# Altium schematic symbol library multimodal.SchLib: 121 symbols
Pins are listed as number, name and electrical type; pins without a type are passive.

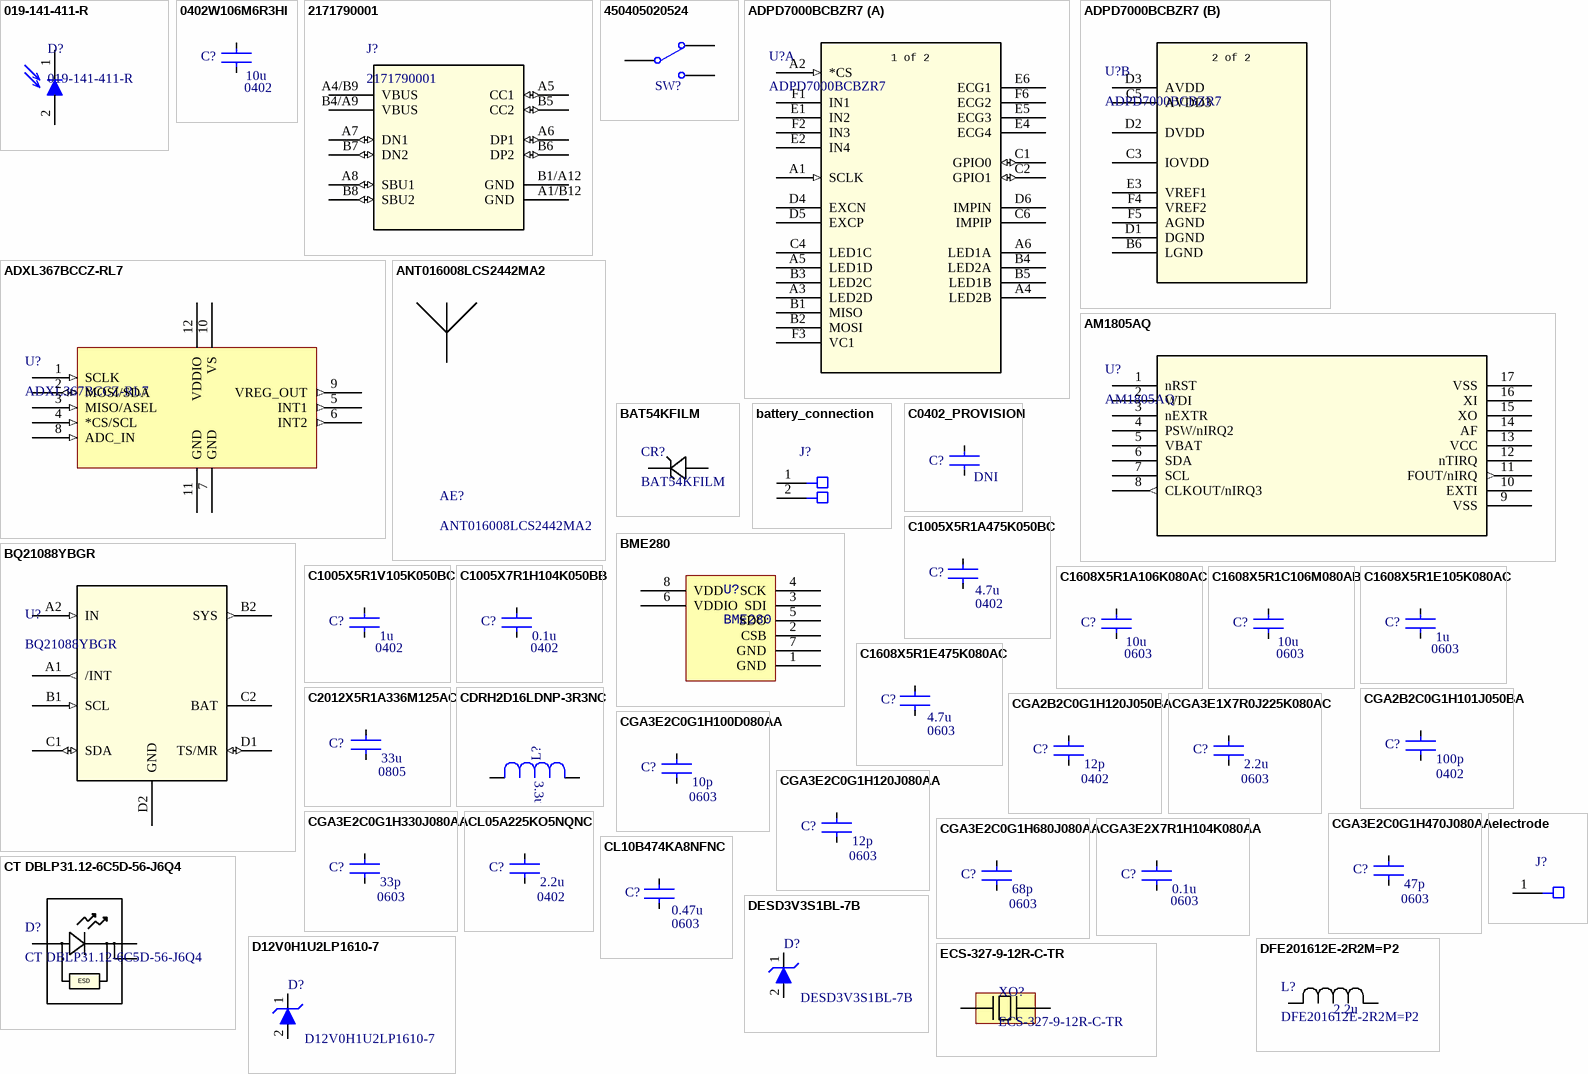
[diagram p0: symbols 019-141-411-R to electrode]

## 019-141-411-R
designator D?
PHOTODIODE RED MICRO SMT; Supplier 1: Digi-Key; Supplier Part Number 1: 209-019-141-411-RCT-ND
footprint RED-PD
pins: 1, 2

## 0402W106M6R3HI
designator C?  (value not drawn)
CAP SMD,0402,X5R,10UF,20%,6.3V
footprint CAPTDK0402
pins: 1, 2
text: 10u; 0402

## 2171790001
designator J?
Universal Serial Bus (USB) Shielded I/O Receptacle, Type C, Right-Angle, Top Mount, Surface Mount, Single Row, 16 Circuits, Gold (Au) Plating; Manufacturer_Name: Molex Connector Corporation; Copyright: Copyright (C) 2025 Ultra Librarian. All rights reserved.; Manufacturer_Part_Number: 2171790001; RefDes: RefDes; Type: Type; Supplier 1: Avnet; Supplier Part Number 1: 2171790001
footprint 2171790001_MOL
pins: A1/B12 GND (power), A4/B9 VBUS (power), A5 CC1 (io), A6 DP1 (io), A7 DN1 (io), A8 SBU1 (io), B1/A12 GND (power), B4/A9 VBUS (power), B5 CC2 (io), B6 DP2 (io), B7 DN2 (io), B8 SBU2 (io)

## 450405020524
designator SW?  (value not drawn)
WS-SLSU SMT Mini Slide Switch Same Side Connection, SPDT, 5VDC, 300mA, 225g; Manufacturer: Wurth Elektronik; ComponentLink1Description: Website Link; ComponentLink1URL: https://www.we-online.com/redexpert/article/450405020524?ad; ComponentLink2Description: Datasheet Link; ComponentLink2URL: https://www.we-online.com/redexpert/spec/450405020524?ad; Manufacturer Part Number: 450405020524; Category: Slide Switches; Match Code: WS-SLSU; Mount: Surface Mount; Operating Temperature Max: 85°C; Operating Temperature Min: -40°C; Packaging: Tape and Reel; Length: 8.7mm; Width: 3mm; Height: 2mm; Circuit: SPDT; Contact Material: Copper Alloy; Contact Plating: Silver; Operation Force: 225g; Rated Current: 300mA; Rated Voltage: 5VDC; Terminal Material: Copper Alloy; Terminal Plating: Silver
footprint 450405020524 (SMT Mini Slide Switch, Same side connection)
pins: COM, L1, L2

## ADPD7000BCBZR7
designator U?
Multimodal Sensor Front End; Manufacturer_Name: Analog Devices Inc; Type: Interface; Copyright: Copyright (C) 2026 Ultra Librarian. All rights reserved.; Manufacturer_Part_Number: ADPD7000BCBZR7; RefDes: RefDes
footprint ADPD7001_36-WLCSP
part A pins: A1 SCLK (in), A2 *CS (in), A3 LED2D, A4 LED2B, A5 LED1D, A6 LED1A, B1 MISO, B2 MOSI, B3 LED2C, B4 LED2A, B5 LED1B, C1 GPIO0 (io), C2 GPIO1 (io), C4 LED1C, C6 IMPIP, D4 EXCN, D5 EXCP, D6 IMPIN, E1 IN2, E2 IN4, E4 ECG4, E5 ECG3, E6 ECG1, F1 IN1, F2 IN3, F3 VC1, F6 ECG2
part B pins: B6 LGND (power), C3 IOVDD (power), C5 AVDD3 (power), D1 DGND (power), D2 DVDD (power), D3 AVDD (power), E3 VREF1, F4 VREF2, F5 AGND (power)
part A text: 1 of 2
part B text: 2 of 2

## ADXL367BCCZ-RL7
designator U?
Accelerometer X, Y, Z Axis ±2g, 4g, 8g 6.25Hz ~ 200Hz 12-LGA (2.2x2.3); Manufacturer_Name: Analog Devices Inc; Type: Motion Sensors; Copyright: Copyright (C) 2025 Ultra Librarian. All rights reserved.; Manufacturer_Part_Number: ADXL367BCCZ-RL7; RefDes: RefDes; Supplier 1: DigiKey; Supplier Part Number 1: 505-ADXL367BCCZ-RL7CT-ND
footprint ADXL367BCCZ-RL7
pins: 1 SCLK (in), 2 MOSI/SDA (io), 3 MISO/ASEL (in), 4 *CS/SCL (in), 5 INT1 (out), 6 INT2 (out), 7 GND (power), 8 ADC_IN (in), 9 VREG_OUT (out), 10 VS (power), 11 GND (power), 12 VDDIO (power)

## AM1805AQ
designator U?
RTC ARTASIE I2C W/PWR MNGT 16QFN; Manufacturer_Name: Ambiq Micro; Manufacturer_Part_Number: AM1815AQ; Copyright: Copyright (C) 2026 Ultra Librarian. All rights reserved.; RefDes: RefDes; Type: Type; Supplier 1: DigiKey; Supplier Part Number 1: 5128-AM1805AQCT-ND
footprint QFN16_AM1805AQ_ABQ
pins: 1 nRST, 2 WDI, 3 nEXTR, 4 PSW/nIRQ2, 5 VBAT, 6 SDA, 7 SCL, 8 CLKOUT/nIRQ3 (out), 9 VSS, 10 EXTI, 11 FOUT/nIRQ (out), 12 nTIRQ, 13 VCC (power), 14 AF, 15 XO, 16 XI, 17 VSS (power)

## ANT016008LCS2442MA2
designator AE?
TDK - ANT016008LCS2442MA2 - Chip Antenna, ISM, 2.442 GHz, 50 Ohm, 1.6mm x 0.8mm x 0.4mm; Number of Bands: 1; Max Frequency: 27MHz; Supplier 1: Digi-Key; Manufacturer: TDK; Manufacturer Part Number: ANT016008LCS2442MA2; RoHS: Yes; Category: RF Antennas; Stock 1: 16359; Pricing 1: 1=0.72000, 10=0.63500, 25=0.59680, 100=0.48700, 250=0.45236, 500=0.38500, 1000=0.30800 (USD); Mount: Surface Mount; Case/Package: 0603; Number of Pins: 6; Packaging: Cut Tape; Termination: Solder; Height: 0.016inch; REACH SVHC: No SVHC; RoHS Compliant: Yes; ComponentLink1URL: http://www.farnell.com/datasheets/2294435.pdf?src-supplier=Farnell; ComponentLink1Description: http://www.farnell.com/datasheets/2294435.pdf?src-supplier=Farnell; ComponentLink2URL: https://product.tdk.com/info/en/documents/data_sheet/rf_ant_ant016008lcs2442ma2_summary_en.pdf?src-supplier=Digi-Key; ComponentLink2Description: https://product.tdk.com/info/en/documents/data_sheet/rf_ant_ant016008lcs2442ma2_summary_en.pdf?src-supplier=Digi-Key; ComponentLink3URL: https://product.tdk.com/info/en/documents/data_sheet/rf_ant_ant016008lcs2442ma2_en.pdf?src-supplier=Avnet; ComponentLink3Description: https://product.tdk.com/info/en/documents/data_sheet/rf_ant_ant016008lcs2442ma2_en.pdf?src-supplier=Avnet; ComponentLink4URL: http://www.farnell.com/datasheets/1932405.pdf?src-supplier=Element14; ComponentLink4Description: http://www.farnell.com/datasheets/1932405.pdf?src-supplier=Element14; Supplier Part Number 1: 445-172405CT-ND
footprint ANTENNA
pins: 2

## BAT54KFILM
designator CR?
40 V, 300 mA General purpose  Signal Schottky Diode; Manufacturer_Name: STMicroelectronics; Copyright: Copyright (C) 2025 Ultra Librarian. All rights reserved.; Manufacturer_Part_Number: BAT54KFILM; Refdes: Refdes
footprint SOD-523_STM-L
pins: 1, 2

## battery_connection
designator J?  (value not drawn)
footprint Battery_connection
pins: 1, 2

## BME280
designator U?
SENSOR PRESSURE HUMIDITY TEMP Humidity, Pressure, Temperature 0 ~ 100% RH I2C, SPI ±3% 1 s Surface Mount
footprint BME280_FOOTPRINT
pins: 1 GND, 2 CSB, 3 SDI, 4 SCK, 5 SDO, 6 VDDIO, 7 GND, 8 VDD

## BQ21088YBGR
designator U?
I2C, 1A single cell linear battery charger, 5V input, powerpath, ship mode and battery tracking 8-DSBGA -40 to 85; Manufacturer_Name: Texas Instruments; Copyright: Copyright (C) 2026 Ultra Librarian. All rights reserved.; Manufacturer_Part_Number: BQ21088YBGR; Datasheet: https://www.ti.com/lit/gpn/bq21088; RefDes: RefDes; Type: Type
footprint YBG0008_TEX
pins: A1 /INT (out), A2 IN (in), B1 SCL (in), B2 SYS (out), C1 SDA (io), C2 BAT, D1 TS/MR (io), D2 GND (power)

## C0402_PROVISION
designator C?, comment DNI  (no BOM)
CAP PROVISION 0603; Value: DNI
footprint CAPTDK0603
pins: 1, 1, 2, 2

## C1005X5R1A475K050BC
designator C?  (value not drawn)
CAP CER 4.7UF 10V X5R 0402; Supplier 1: Digi-Key; Supplier Part Number 1: 445-13820-1-ND
footprint CAPTDK0402
pins: 1, 2
text: 4.7u; 0402

## C1005X5R1V105K050BC
designator C?  (value not drawn)
CAP CER 1UF 35V X5R 0402; Supplier 1: Digi-Key; Supplier Part Number 1: 445-9073-1-ND
footprint CAPTDK0402
pins: 1, 2
text: 1u; 0402

## C1005X7R1H104K050BB
designator C?  (value not drawn)
CAP CER 0.1UF 50V X7R 0402; Supplier 1: Digi-Key; Supplier Part Number 1: 445-5932-1-ND
footprint CAPTDK0402
pins: 1, 2
text: 0.1u; 0402

## C1608X5R1A106K080AC
designator C?  (value not drawn)
CAP CER 10UF 10V X5R 0603; Supplier 1: Digi-Key; Supplier Part Number 1: 445-C1608X5R1A106K080ACCT-ND
footprint CAPTDK0603
pins: 1, 2
text: 10u; 0603

## C1608X5R1C106M080AB
designator C?  (value not drawn)
CAP CER 10UF 16V X5R 0603; Supplier 1: Avnet; Supplier Part Number 1: C1608X5R1C106M080AB
footprint CAPTDK0603
pins: 1, 2
text: 10u; 0603

## C1608X5R1E105K080AC
designator C?  (value not drawn)
CAP CER 1UF 25V X5R 0603; Supplier 1: Digi-Key; Supplier Part Number 1: 445-5146-1-ND
footprint CAPTDK0603
pins: 1, 2
text: 1u; 0603

## C1608X5R1E475K080AC
designator C?  (value not drawn)
CAP CER 4.7UF 25V X5R 0603; Supplier 1: Digi-Key; Supplier Part Number 1: 445-9050-1-ND
footprint CAPTDK0603
pins: 1, 2
text: 4.7u; 0603

## C2012X5R1A336M125AC
designator C?  (value not drawn)
CAP CER 33UF 10V X5R 0805; Supplier 1: Digi-Key; Supplier Part Number 1: 445-8238-1-ND
footprint CAPTDK0805
pins: 1, 2
text: 33u; 0805

## CDRH2D16LDNP-3R3NC
designator L?  (value not drawn)
FIXED IND 3.3UH 1.74A 67 MOHM; Supplier 1: DigiKey; Supplier Part Number 1: 490-15244-1-ND
footprint IND_SUMIDA
pins: 1, 2
text: 3.3uH

## CGA2B2C0G1H101J050BA
designator C?  (value not drawn)
CAP CER 100PF 50V C0G 0402; Supplier 1: Digi-Key; Supplier Part Number 1: 445-5596-1-ND
footprint CAPTDK0402
pins: 1, 2
text: 100p; 0402

## CGA2B2C0G1H120J050BA
designator C?  (value not drawn)
CAP CER 12PF 50V C0G 0402; Supplier 1: Digi-Key; Supplier Part Number 1: 445-5585-1-ND
footprint CAPTDK0402
pins: 1, 2
text: 12p; 0402

## CGA3E1X7R0J225K080AC
designator C?  (value not drawn)
CAP CER 2.2UF 6.3V X7R 0603; Supplier 1: Avnet; Supplier Part Number 1: CGA3E1X7R0J225K080AC
footprint CAPTDK0603
pins: 1, 2
text: 2.2u; 0603

## CGA3E2C0G1H100D080AA
designator C?  (value not drawn)
CAP CER 10PF 50V C0G 0603; Supplier 1: Avnet; Supplier Part Number 1: 80X3161
footprint CAPTDK0603
pins: 1, 2
text: 10p; 0603

## CGA3E2C0G1H120J080AA
designator C?  (value not drawn)
CAP CER 12PF 50V C0G 0603; Supplier 1: Digi-Key; Supplier Part Number 1: 445-5629-1-ND
footprint CAPTDK0603
pins: 1, 2
text: 12p; 0603

## CGA3E2C0G1H330J080AA
designator C?  (value not drawn)
CAP CER 33PF 50V C0G 0603; Supplier 1: Newark; Supplier Part Number 1: CGA3E2C0G1H330J080AA
footprint CAPTDK0603
pins: 1, 2
text: 33p; 0603

## CGA3E2C0G1H470J080AA
designator C?  (value not drawn)
CAP CER 47PF 50V C0G 0603; Supplier 1: Avnet; Supplier Part Number 1: CGA3E2C0G1H470J080AA
footprint CAPTDK0603
pins: 1, 2
text: 47p; 0603

## CGA3E2C0G1H680J080AA
designator C?  (value not drawn)
CAP CER 68PF 50V C0G 0603; Supplier 1: Avnet; Supplier Part Number 1: 80X3175
footprint CAPTDK0603
pins: 1, 2
text: 68p; 0603

## CGA3E2X7R1H104K080AA
designator C?  (value not drawn)
CAP CER 0.1UF 50V X7R 0603; Supplier 1: Digi-Key; Supplier Part Number 1: 445-5666-1-ND
footprint CAPTDK0603
pins: 1, 2
text: 0.1u; 0603

## CL05A225KO5NQNC
designator C?  (value not drawn)
CAP CER 2.2UF 16V X5R 0402; Supplier 1: Avnet; Supplier Part Number 1: CL05A225KO5NQNC
footprint CAPTDK0402
pins: 1, 2
text: 2.2u; 0402

## CL10B474KA8NFNC
designator C?  (value not drawn)
0.47 µF ±10% 25V Ceramic Capacitor X7R 0603 (1608 Metric); Supplier 1: DigiKey; Supplier Part Number 1: 1276-2082-1-ND
footprint CAPTDK0603
pins: 1, 2
text: 0.47u; 0603

## CT DBLP31.12-6C5D-56-J6Q4
designator D?
LED GREEN CLEAR SMD Green 536nm LED Indication - Discrete 2.3V 3-SMD, No Lead; Manufacturer_Name: ams OSRAM; Copyright: Copyright (C) 2025 Ultra Librarian. All rights reserved.; Manufacturer_Part_Number: CT DBLP31.12-6C5D-56-J6Q4; Supplier 1: Avnet; Supplier Part Number 1: Q65112A4607
footprint CT DBLP31.12-6C5D-56-J6Q4_OSR
pins: 1, 2, 3
text: ESD

## D12V0H1U2LP1610-7
designator D?
TVS DIODE 12VWM 20V UDFN16102 20V Clamp 50A (8/20µs) Ipp Tvs Diode Surface Mount U-DFN1610-2 (Type B); Manufacturer: Diodes; Manufacturer Part Number: DESD3V3S1BL-7B; Direction: Bidirectional; Number of Bidirectional Channels: 1; Reverse Standoff Voltage: 3.3V; Min Breakdown Voltage: 3.8V; Clamping Voltage: 7V; Peak Pulse Power: 35W; Power Line Protection: No; Max Reverse Leakage Current: 100nA; Element Configuration: Single; Breakdown Voltage: 6.5V; Peak Pulse Current: 5A; RoHS: Yes; Category: TVS Diodes; Stock 1: 514017; Pricing 1: 1=0.32000, 10=0.26000, 100=0.13790, 500=0.09076, 1000=0.06171, 2000=0.05566, 5000=0.04840 (USD); Mount: Surface Mount; Number of Pins: 2; Min Operating Temperature: -65°C; Max Operating Temperature: 150°C; Packaging: Tape and Reel; Package Quantity: 10000; Polarity: Bidirectional; Termination: SMD/SMT; Working Voltage: 3.3V; Max Power Dissipation: 35W; Resistor Type: Zener; Radiation Hardening: No; RoHS Compliant: Yes; ComponentLink1URL: https://www.diodes.com/assets/Datasheets/DESD3V3S1BL.pdf; ComponentLink1Description: Datasheet; ComponentLink2Description: New link; ComponentLink2URL: *; Supplier 1: Avnet; Supplier Part Number 1: D12V0H1U2LP1610-7
pins: 1, 2

## DESD3V3S1BL-7B
designator D?
TVS DIODE 3.3V 7V DFN1006-2; Manufacturer: Diodes; Direction: Bidirectional; Number of Bidirectional Channels: 1; Min Breakdown Voltage: 3.8V; Peak Pulse Power: 35W; Power Line Protection: No; Max Reverse Leakage Current: 100nA; Element Configuration: Single; Breakdown Voltage: 6.5V; Peak Pulse Current: 5A; Supplier 1: Digi-Key; Manufacturer Part Number: DESD3V3S1BL-7B; RoHS: Yes; Category: TVS Diodes; Stock 1: 514017; Pricing 1: 1=0.32000, 10=0.26000, 100=0.13790, 500=0.09076, 1000=0.06171, 2000=0.05566, 5000=0.04840 (USD); Mount: Surface Mount; Number of Pins: 2; Min Operating Temperature: -65°C; Max Operating Temperature: 150°C; Packaging: Tape and Reel; Package Quantity: 10000; Reverse Standoff Voltage: 3.3V; Clamping Voltage: 7V; Polarity: Bidirectional; Termination: SMD/SMT; Working Voltage: 3.3V; Max Power Dissipation: 35W; Resistor Type: Zener; Radiation Hardening: No; RoHS Compliant: Yes; ComponentLink1URL: https://www.diodes.com/assets/Datasheets/DESD3V3S1BL.pdf; ComponentLink1Description: Datasheet; Supplier Part Number 1: DESD3V3S1BL-7BDICT-ND; ComponentLink2Description: New link; ComponentLink2URL: *
footprint TVSDIODE-0402 (DFN, 2-Leads, Body 0.61x1.01mm, Pitch 0.65mm, IPC Medium Density)
pins: 1, 2

## DFE201612E-2R2M=P2
designator L?
2.2 µH Shielded Drum Core, Wirewound Inductor 1.8 A 116mOhm Max 0806 (2016 Metric); Manufacturer_Name: Murata; Type: Fixed Inductors; Copyright: Copyright (C) 2025 Ultra Librarian. All rights reserved.; Manufacturer_Part_Number: DFE201612E-2R2M=P2
footprint IND_DFE2016_MUR-L
pins: 1, 2
text: 2.2u

## ECS-327-9-12R-C-TR
designator XO?
Crystal 0.032768MHz ±10ppm (Tol) 9pF Flexural 70000Ohm Automotive 2-Pin Ultra Mini-CSMD T/R; Manufacturer: ECS International; Manufacturer Part Number: ECS-.327-9-12R-C-TR; Frequency: 32.768kHz; ESR (Equivalent Series Resistance): 70kR; Supplier 1: Digi-Key; RoHS: Yes; Stock 1: 152; Pricing 1: 1=0.79000, 10=0.65700, 50=0.59160, 100=0.52580, 500=0.49952, 1000=0.42064 (USD); Mount: Surface Mount; Case/Package: SMD/SMT; Min Operating Temperature: -40°C; Max Operating Temperature: 85°C; Packaging: Tape and Reel; Frequency Tolerance: 10ppm; Load Capacitance: 9pF; ComponentLink1URL: https://www.ecsxtal.com/store/pdf/ECX-12R.pdf?src-supplier=Digi-Key; ComponentLink1Description: https://www.ecsxtal.com/store/pdf/ECX-12R.pdf?src-supplier=Digi-Key; Supplier Part Number 1: XC2744CT-ND
footprint LSE-32K
pins: 1, 2

## electrode
designator J?  (value not drawn)
one pad opening
footprint electrode
pins: 1

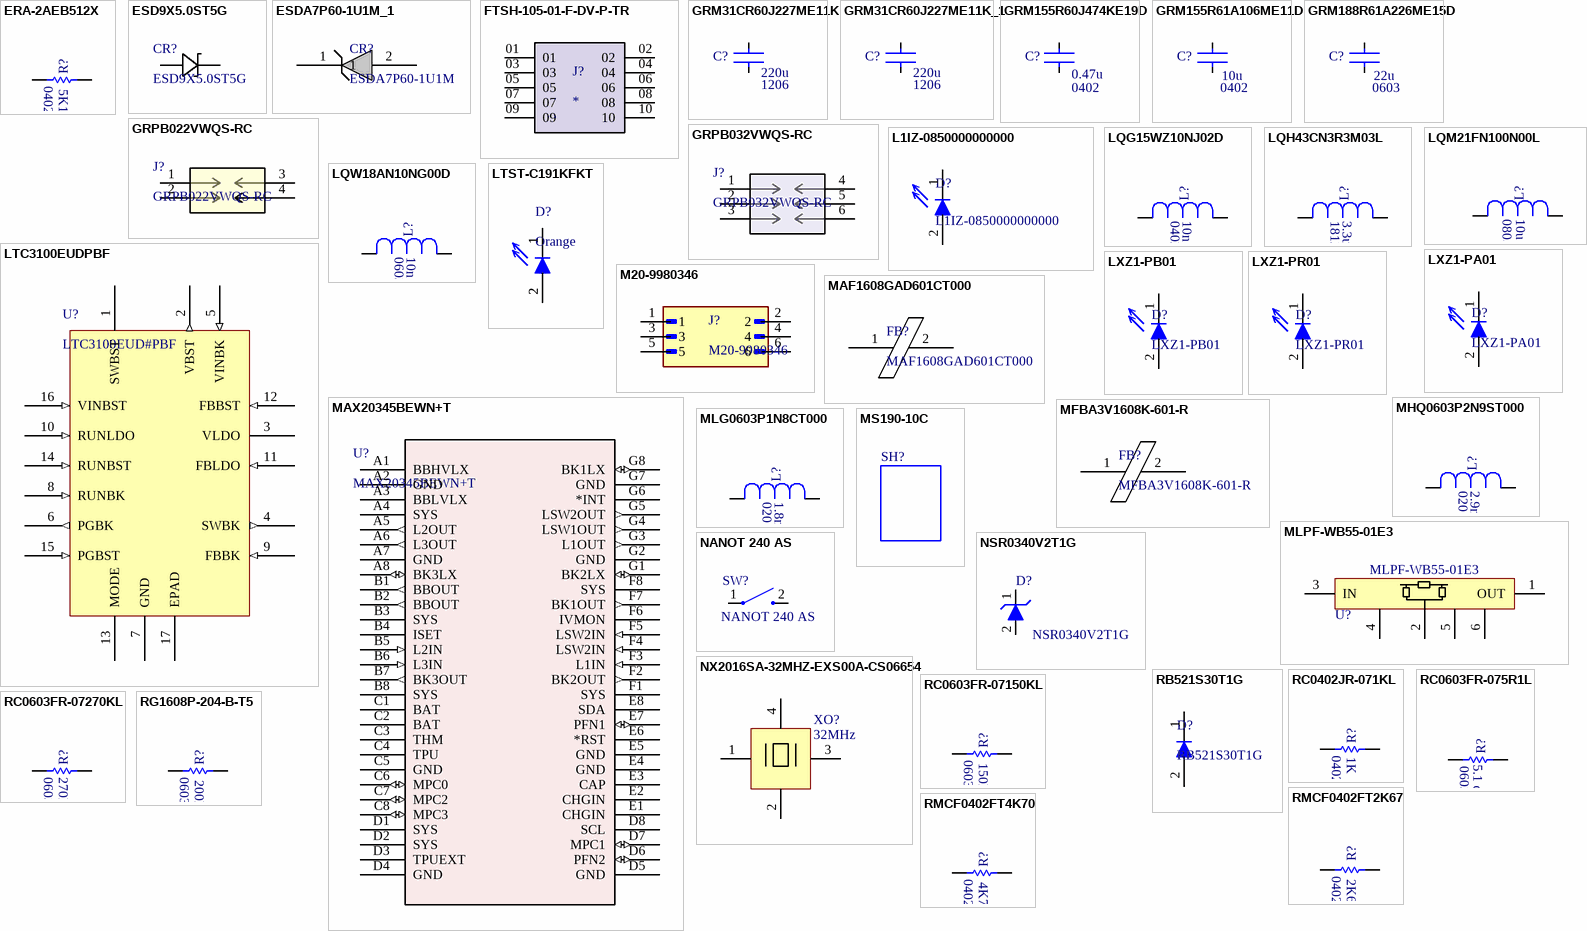
[diagram p1: symbols ERA-2AEB512X to RMCF0402FT4K70]

## ERA-2AEB512X
designator R?  (value not drawn)
RES SMD 5.1K OHM 0.1% 1/16W 0402; Supplier 1: Arrow Electronics; Supplier Part Number 1: ERA-2AEB512X
footprint RES-STACK-POLE-0402
pins: 1, 2
text: 0402; 5K1

## ESD9X5.0ST5G
designator CR?
TVS DIODE 5VWM 12.3VC SOD923; Manufacturer_Name: onsemi; Copyright: Copyright (C) 2026 Ultra Librarian. All rights reserved.; Manufacturer_Part_Number: ESD9X5.0ST5G; Supplier 1: Avnet; Supplier Part Number 1: ESD9X5.0ST5G
footprint SOD-923_514AB_ONS
pins: 1, 2

## ESDA7P60-1U1M_1
designator CR?, comment ESDA7P60-1U1M
60 A - 8/20 us, 5 V TVS in QFN-2L; Manufacturer_Name: STMicroelectronics; Copyright: Copyright (C) 2026 Ultra Librarian. All rights reserved.; Manufacturer_Part_Number: ESDA7P60-1U1M; RefDes: RefDes; Type: Type; Supplier 1: Avnet; Supplier Part Number 1: ESDA7P60-1U1M
footprint ZDO_1610_STM-M
pins: 1, 2

## FTSH-105-01-F-DV-P-TR
designator J?
Connector Header Surface Mount 10 position 0.050" (1.27mm); MF: Samtec Inc.; MP: FTSH-105-01-F-DV-K-TR; SnapEDA_Link: https://www.snapeda.com/parts/FTSH-105-01-F-DV-K-TR/Samtec/view-part/?ref=snap; Package: None; Value: *; Check_prices: https://www.snapeda.com/parts/FTSH-105-01-F-DV-K-TR/Samtec/view-part/?ref=eda
footprint SAMTEC_FTSH-105-01-F-DV-P-TR
pins: 01, 02, 03, 04, 05, 06, 07, 08, 09, 10

## GRM31CR60J227ME11K
designator C?  (value not drawn)
CAP CER 220UF 6.3V X5R 1206; Manufacturer: Murata; Dielectric Material: Ceramic; Multilayer: Yes; Negative Tolerance: 20%; Supplier 1: Digikey; Manufacturer Part Number: GRM31CR60J227ME11K; RoHS: Yes; Category: Ceramic Capacitors; Stock 1: 29099; Pricing 1: 1=0.92, 10=0.665, 50=0.5816, 100=0.4738, 500=0.38768, 1000=0.33383, 2500=0.31229 (USD); Mount: Surface Mount; Number of Pins: 2; Package Shape: Rectangular; Size Code: 1206; Terminal Finish: Nickel; Min Operating Temperature: -55°C; Max Operating Temperature: 85°C; JESD-609 Code: e3; Capacitance: 220uF; Capacitor Type: Ceramic; Packaging: Tape and Reel; Positive Tolerance: 20%; Rated DC Voltage (URdc): 6.3V; Temperature Characteristics Code: X5R; Termination: Wraparound; Reach SVHC Compliant: Yes; RoHS Compliant: Yes; ComponentLink1URL: https://psearch.en.murata.com:443/capacitor/product/GRM31CR60J227ME11%23.pdf?src-supplier=IHS+Markit; ComponentLink1Description: https://psearch.en.murata.com:443/capacitor/product/GRM31CR60J227ME11%23.pdf?src-supplier=IHS+Markit; Supplier Part Number 1: 490-GRM31CR60J227ME11KCT-ND
footprint CAPMRT1206
pins: 1, 2
text: 220u

## GRM31CR60J227ME11K_1
designator C?, comment GRM31CR60J227ME11K  (value not drawn)
CAP CER 220UF 6.3V X5R 1206; Manufacturer: Murata; Dielectric Material: Ceramic; Multilayer: Yes; Negative Tolerance: 20%; Supplier 1: Digikey; Manufacturer Part Number: GRM31CR60J227ME11K; RoHS: Yes; Category: Ceramic Capacitors; Stock 1: 29099; Pricing 1: 1=0.92, 10=0.665, 50=0.5816, 100=0.4738, 500=0.38768, 1000=0.33383, 2500=0.31229 (USD); Mount: Surface Mount; Number of Pins: 2; Package Shape: Rectangular; Size Code: 1206; Terminal Finish: Nickel; Min Operating Temperature: -55°C; Max Operating Temperature: 85°C; JESD-609 Code: e3; Capacitance: 220uF; Capacitor Type: Ceramic; Packaging: Tape and Reel; Positive Tolerance: 20%; Rated DC Voltage (URdc): 6.3V; Temperature Characteristics Code: X5R; Termination: Wraparound; Reach SVHC Compliant: Yes; RoHS Compliant: Yes; ComponentLink1URL: https://psearch.en.murata.com:443/capacitor/product/GRM31CR60J227ME11%23.pdf?src-supplier=IHS+Markit; ComponentLink1Description: https://psearch.en.murata.com:443/capacitor/product/GRM31CR60J227ME11%23.pdf?src-supplier=IHS+Markit; Supplier Part Number 1: 490-GRM31CR60J227ME11KCT-ND
footprint CAPMRT1206
pins: 1, 2
text: 220u

## GRM155R60J474KE19D
designator C?  (value not drawn)
CAP CER 0.47UF 6.3V X5R 0402; Supplier 1: Avnet; Supplier Part Number 1: GRM155R60J474KE19D
footprint CAPTDK0402
pins: 1, 2
text: 0.47u; 0402

## GRM155R61A106ME11D
designator C?  (value not drawn)
CAP CER 10UF 10V X5R 0402; Supplier 1: Digi-Key; Supplier Part Number 1: 490-GRM155R61A106ME11DCT-ND
footprint CAPTDK0402
pins: 1, 2
text: 10u; 0402

## GRM188R61A226ME15D
designator C?  (value not drawn)
CAP CER 22UF 10V X5R 0603; Supplier 1: Avnet; Supplier Part Number 1: GRM188R61A226ME15D
footprint CAPTDK0603
pins: 1, 2
text: 22u; 0603

## GRPB022VWQS-RC
designator J?
Description; Manufacturer_Name: Sullins; Type: Headers, Male Pins; Copyright: Copyright (C) 2025 Ultra Librarian. All rights reserved.; Manufacturer_Part_Number: GRPB022VWQS-RC; RefDes: RefDes
footprint CON4_GRPB022VWQS-RC_SUL
pins: 1, 2, 3, 4

## GRPB032VWQS-RC
designator J?
Description; Manufacturer_Name: Sullins; Copyright: Copyright (C) 2025 Ultra Librarian. All rights reserved.; Manufacturer_Part_Number: GRPB032VWQS-RC; RefDes: RefDes; Type: Type; Supplier 1: DigiKey; Supplier Part Number 1: S9012E-03-ND
footprint CONN_GRBP032_SUL
pins: 1, 2, 3, 4, 5, 6

## L1IZ-0850000000000
designator D?
LED INFRARED SMD 850 NM; Manufacturer_Name: Lumileds; Datasheet Link: https://www.lumileds.com/uploads/682/DS190-pdf; Height: 1mm; Manufacturer_Part_Number: L1IZ-0850000000000; Mouser Part Number: 997-L1IZ-085000000; Mouser Price/Stock: https://www.mouser.co.uk/ProductDetail/Lumileds/L1IZ-0850000000000/?qs=5aG0NVq1C4zF5FvmYgealQ%3D%3D; Arrow Part Number: L1IZ-0850000000000; Arrow Price/Stock: https://www.arrow.com/en/products/l1iz-0850000000000/lumileds; Supplier 1: Digi-Key; Supplier Part Number 1: 1416-1997-1-ND
footprint L1IZ0850000000000
pins: 1, 2

## LQG15WZ10NJ02D
designator L?  (value not drawn)
FIXED IND 10NH 500MA 190MOHM SMD; Supplier 1: Digi-Key; Supplier Part Number 1: 490-15244-1-ND
footprint INDMURT0402
pins: 1, 2
text: 0402; 10n

## LQH43CN3R3M03L
designator L?  (value not drawn)
FIXED IND 3.3UH 800MA 130 MOHM; Supplier 1: DigiKey; Supplier Part Number 1: 490-15244-1-ND
footprint IND_LQH43CN3R3M03L
pins: 1, 2
text: 1812; 3.3uH

## LQM21FN100N00L
designator L?  (value not drawn)
FIXED IND 10UH 60MA 650 MOHM SMD; Supplier 1: Digi-Key; Supplier Part Number 1: 490-1122-1-ND
footprint INDMURT0805
pins: 1, 2
text: 0805; 10u

## LQW18AN10NG00D
designator L?  (value not drawn)
FIXED IND 10NH 650MA 110MOHM SMD; Manufacturer 1: Murata; Inductance Tolerance: 2%; Q Factor: 35; Self Resonant Frequency: 6GHz; Shielding: Unshielded; DC Resistance (DCR): 110mR; Test Frequency: 100MHz; Current: 550mA; Supplier 1: Digi-Key; Supplier Part Number 1: 490-6856-1-ND; Manufacturer Part Number 1: LQW18AN10NG00D; RoHS: Yes; Category: Fixed Inductors; Stock 1: 123659; Pricing 1: 1=0,17000, 10=0,15600, 25=0,13840, 50=0,11780, 100=0,10400, 250=0,09528, 500=0,08662, 1000=0,07276 (USD); Mount: Surface Mount; Case/Package: 0603; Number of Pins: 2; Weight: 0.000106oz; Case Code (Metric): 1608; Case Code (Imperial): 0603; Min Operating Temperature: -55°C; Max Operating Temperature: 125°C; Packaging: Tape and Reel; Tolerance: 2%; Package Quantity: 4000; Current Rating: 650mA; Inductance: 10nH; Max DC Current: 650mA; Termination: SMD/SMT; Resistor Type: Wirewound; DC Current: 650mA; Series Resistance: 110mR; Series: LQW18A_00; Rated Current-Max: 650mA; Length: 1.6mm; Width: 0.8mm; Height: 0.8mm; Depth: 1mm; Radiation Hardening: No; Reach SVHC Compliant: No SVHC; Military Standard: Not; Lead Free: Lead Free; RoHS Compliant: Yes; ComponentLink1URL: https://datasheet.ciiva.com/11799/0900766b80a002db-11799438.pdf?src-supplier=RSComponents; ComponentLink1Description: https://datasheet.ciiva.com/11799/0900766b80a002db-11799438.pdf?src-supplier=RSComponents; ComponentLink2URL: https://datasheet.ciiva.com/14124/qhlqw18a-data-e-14124615.pdf?src-supplier=Distrelec; ComponentLink2Description: https://datasheet.ciiva.com/14124/qhlqw18a-data-e-14124615.pdf?src-supplier=Distrelec; ComponentLink3URL: https://datasheet.ciiva.com/6709/l0075s0080lqw18a-00-6709786.pdf?src-supplier=Digi-Key; ComponentLink3Description: https://datasheet.ciiva.com/6709/l0075s0080lqw18a-00-6709786.pdf?src-supplier=Digi-Key; ComponentLink4URL: https://datasheet.ciiva.com/6709/l0075s0080lqw18a-00-6709784.pdf?src-supplier=Digi-Key; ComponentLink4Description: https://datasheet.ciiva.com/6709/l0075s0080lqw18a-00-6709784.pdf?src-supplier=Digi-Key; ComponentLink5URL: https://datasheet.ciiva.com/6709/l0075s0080lqw18a-00-6709789.pdf?src-supplier=Digi-Key; ComponentLink5Description: https://datasheet.ciiva.com/6709/l0075s0080lqw18a-00-6709789.pdf?src-supplier=Digi-Key; ComponentLink6URL: https://datasheet.ciiva.com/4977/product-4977735.pdf?src-supplier=Mouser; ComponentLink6Description: https://datasheet.ciiva.com/4977/product-4977735.pdf?src-supplier=Mouser; ComponentLink7URL: https://datasheet.ciiva.com/46386/1487239-46386567.pdf?src-supplier=Element14; ComponentLink7Description: https://datasheet.ciiva.com/46386/1487239-46386567.pdf?src-supplier=Element14; ComponentLink8URL: https://datasheet.ciiva.com/16390/l0075s0080lqw18a-00-16390351.pdf?src-supplier=Future+Electronics; ComponentLink8Description: https://datasheet.ciiva.com/16390/l0075s0080lqw18a-00-16390351.pdf?src-supplier=Future+Electronics
footprint INDMURT0603
pins: 1, 2
text: 10n

## LTC3100EUDPBF
designator U?, comment LTC3100EUD#PBF
PMIC - Voltage Regulators - Linear Switching 3 Output Step-Down (Buck) (1), Step-Up (Boost) (1), Linear (LDO) (1) 1.5MHz 16-QFN (3x3); Manufacturer_Name: Analog Devices Inc; Copyright: Copyright (C) 2025 Ultra Librarian. All rights reserved.; Manufacturer_Part_Number: LTC3100EUD#PBF; Datasheet: https://www.analog.com/media/en/technical-documentation/data-sheets/3100fb.pdf; RefDes: RefDes; Type: Type; Supplier 1: DigiKey; Supplier Part Number 1: LTC3100EUD#PBF-ND
footprint LTC3100EUD#PBF
pins: 1 SWBST, 2 VBST (out), 3 VLDO (power), 4 SWBK (out), 5 VINBK (in), 6 PGBK (out), 7 GND (power), 8 RUNBK (in), 9 FBBK (in), 10 RUNLDO (in), 11 FBLDO (in), 12 FBBST (in), 13 MODE, 14 RUNBST (in), 15 PGBST (in), 16 VINBST (in), 17 EPAD

## LTST-C191KFKT
designator D?, comment Orange
LED ORANGE CLEAR 0603 SMD; Supplier 1: Digi-Key; Supplier Part Number 1: 160-1445-1-ND
footprint DISPLAY-LED
pins: 1, 1, 2, 2

## LXZ1-PA01
designator D?
LED LUXEON Z RED 660NM SMD; Mfr_Name: Lumileds; Type: DEV; Copyright: Copyright (C) 2022 Ultra Librarian. All rights reserved.; Manufacturer_Part_Number: LXZ1-PA01; Digi-Key_Part_Number_1: 1416-1051-1-ND; Digi-Key_Part_Number_2: 1416-1051-2-ND; Digi-Key_Part_Number_3: 1416-1051-6-ND; RefDes: RefDes; Supplier 1: Digi-Key; Supplier Part Number 1: 1416-1051-1-ND
footprint LXZ1-PA01
pins: 1, 2

## LXZ1-PB01
designator D?
LED BLUE 470NM SMD 0705; Mfr_Name: Lumileds; Type: DEV; Copyright: Copyright (C) 2022 Ultra Librarian. All rights reserved.; Manufacturer_Part_Number: LXZ1-PB01; Digi-Key_Part_Number_3: 1416-1051-6-ND; RefDes: RefDes; Supplier 1: DigiKey; Supplier Part Number 1: 1416-1052-1-ND
footprint LXZ1 (Molded LUXEON Z series LED)
pins: 1, 2

## LXZ1-PR01
designator D?
LED LUXEON Z RYL BLUE 450NM 2SMD; Manufacturer: Philips Lumileds; Wavelength: 447.5nm; Forward Current: 500mA; Viewing Angle: 125°; Number of LEDs: 1; Forward Voltage: 2.9V; Lens Style: Rectangular,Round; Supplier 1: Digi-Key; Manufacturer Part Number: LXZ1-PR01; RoHS: Yes; Category: LEDs; Stock 1: 4609; Pricing 1: 1=2.57000, 10=1.71400, 100=1.31940, 500=1.19264, 1000=1.16469 (USD); Mount: Surface Mount; Case/Package: SMD/SMT; Number of Pins: 2; Color: Blue; Lens Color: Blue; Min Operating Temperature: -40°C; Max Operating Temperature: 135°C; Dominant Wavelength: 447.5nm; Test Current: 500mA; Illumination Color: Blue; Packaging: Tape and Reel; Package Quantity: 2000; Length: 1.7mm; Width: 1.3mm; Height: 0.66mm; Lead Free: Lead Free; ComponentLink1URL: https://datasheet.ciiva.com/25632/0900766b81251f28-25632625.pdf?src-supplier=RSComponents; ComponentLink1Description: https://datasheet.ciiva.com/25632/0900766b81251f28-25632625.pdf?src-supplier=RSComponents; ComponentLink2URL: https://datasheet.ciiva.com/16345/ds105-16345515.pdf?src-supplier=Future+Electronics; ComponentLink2Description: https://datasheet.ciiva.com/16345/ds105-16345515.pdf?src-supplier=Future+Electronics; Supplier Part Number 1: 1416-1058-1-ND
footprint LXZ1-PR01 (Molded Diode, 2-Leads, Body 1.30x1.70mm, IPC Medium Density)
pins: 1, 2

## M20-9980346
designator J?
CONN HEADER VERT 6POS 2.54MM; Package: None; Price: None; Value: *; MP: M20-9980346; Availability: Unavailable; Supplier 1: DigiKey; Supplier Part Number 1: 952-2121-ND
footprint HARWIN_M20-9980346
pins: 1, 2, 3, 4, 5, 6

## MAF1608GAD601CT000
designator FB?
FERRITE BEAD 120 OHM 0603 1LN; Supplier 1: Newark; Supplier Part Number 1: MAF1608GAD601CT000
footprint INDMURT0603
pins: 1, 2

## MAX20345BEWN+T
designator U?
PMIC with Ultra-Low IQ Voltage Regulators, Buck-Boost for Optical Sensing and Charger for Small Lithium Ion Systems; Manufacturer_Name: Analog Devices Inc; Manufacturer_Part_Number: MAX20345KEWN+T; Copyright: Copyright (C) 2026 Ultra Librarian. All rights reserved.; RefDes: RefDes; Type: Type; Supplier 1: DigiKey; Supplier Part Number 1: 505-MAX20345BEWN+TTR-ND
footprint 21-100260_W563H3+1_ADI
pins: A1 BBHVLX, A2 GND (power), A3 BBLVLX, A4 SYS, A5 L2OUT (out), A6 L3OUT (out), A7 GND (power), A8 BK3LX (io), B1 BBOUT (out), B2 BBOUT (out), B3 SYS, B4 ISET, B5 L2IN (in), B6 L3IN (in), B7 BK3OUT (out), B8 SYS, C1 BAT, C2 BAT, C3 THM, C4 TPU, C5 GND (power), C6 MPC0 (io), C7 MPC2 (io), C8 MPC3 (io), D1 SYS, D2 SYS, D3 TPUEXT, D4 GND (power), D5 GND (power), D6 PFN2 (io), D7 MPC1 (io), D8 SCL, E1 CHGIN, E2 CHGIN, E3 CAP, E4 GND (power), E5 GND (power), E6 *RST, E7 PFN1 (io), E8 SDA, F1 SYS, F2 BK2OUT (out), F3 L1IN (in), F4 LSW2IN (in), F5 LSW2IN (in), F6 IVMON, F7 BK1OUT (out), F8 SYS, G1 BK2LX (io), G2 GND (power), G3 L1OUT (out), G4 LSW1OUT (out), G5 LSW2OUT (out), G6 *INT, G7 GND (power), G8 BK1LX (io)

## MFBA3V1608K-601-R
designator FB?
FERRITE BEAD 600 OHM 0603 1LN; Supplier 1: DigiKey; Supplier Part Number 1: 283-MFBA3V1608K-601-RCT-ND
footprint INDMURT0603
pins: 1, 2

## MHQ0603P2N9ST000
designator L?  (value not drawn)
FIXED IND 2.9NH 450MA 300MOHM SM; Supplier 1: Digi-Key; Supplier Part Number 1: 445-16842-6-ND
footprint INDTDK0201
pins: 1, 2
text: 0201; 2.9n

## MLG0603P1N8CT000
designator L?  (value not drawn)
FIXED IND 1.8NH 700MA 100MOHM SM; Supplier 1: Digi-Key; Supplier Part Number 1: 445-172430-1-ND
footprint INDTDK0201
pins: 1, 2
text: 0201; 1.8n

## MLPF-WB55-01E3
designator U?
2.4 GHz Matched filter companion chip for STM32WB55Cx and STM32WB55Rx; Manufacturer: STMicroelectronics; Supplier 1: Digi-Key; Manufacturer Part Number: MLPF-WB55-01E3; RoHS: Yes; Stock 1: 16369; Pricing 1: 1=0.30000, 10=0.28300, 25=0.26960, 50=0.26100, 100=0.25230, 250=0.23924, 500=0.20010, 1000=0.15530 (USD); ComponentLink1URL: http://www.farnell.com/datasheets/2802556.pdf?src-supplier=Farnell; ComponentLink1Description: http://www.farnell.com/datasheets/2802556.pdf?src-supplier=Farnell; ComponentLink2URL: http://www.farnell.com/datasheets/2802556.pdf?src-supplier=Newark; ComponentLink2Description: http://www.farnell.com/datasheets/2802556.pdf?src-supplier=Newark; Supplier Part Number 1: 497-19088-1-ND
footprint Matched-Filter-2.4GHz
pins: 1 OUT, 2, 3 IN, 4, 5, 6

## MS190-10C
designator SH?  (value not drawn)
RF SHLD COVER 0.563"X0.764" SNAP; Supplier 1: Digi-Key; Supplier Part Number 1: 2333-MS190-10C-ND

## NANOT 240 AS
designator SW?
SWITCH TACTILE SPST-NO 0.02A 15V; Supplier 1: Future Electronics; Supplier Part Number 1: 2189518
footprint TACTILE-SWITCH - TINY (NANOT 240 AS SWITCH TACTILE SPST-NO 0.02A 15V)
pins: 1, 2

## NSR0340V2T1G
designator D?
DIODE SCHOTTKY 40V 250MA SOD523; Manufacturer: Diodes; Manufacturer Part Number: DESD3V3S1BL-7B; Direction: Bidirectional; Number of Bidirectional Channels: 1; Reverse Standoff Voltage: 3.3V; Min Breakdown Voltage: 3.8V; Clamping Voltage: 7V; Peak Pulse Power: 35W; Power Line Protection: No; Max Reverse Leakage Current: 100nA; Element Configuration: Single; Breakdown Voltage: 6.5V; Peak Pulse Current: 5A; RoHS: Yes; Category: TVS Diodes; Stock 1: 514017; Pricing 1: 1=0.32000, 10=0.26000, 100=0.13790, 500=0.09076, 1000=0.06171, 2000=0.05566, 5000=0.04840 (USD); Mount: Surface Mount; Number of Pins: 2; Min Operating Temperature: -65°C; Max Operating Temperature: 150°C; Packaging: Tape and Reel; Package Quantity: 10000; Polarity: Bidirectional; Termination: SMD/SMT; Working Voltage: 3.3V; Max Power Dissipation: 35W; Resistor Type: Zener; Radiation Hardening: No; RoHS Compliant: Yes; ComponentLink1URL: https://www.diodes.com/assets/Datasheets/DESD3V3S1BL.pdf; ComponentLink1Description: Datasheet; ComponentLink2Description: New link; ComponentLink2URL: *; Supplier 1: Avnet; Supplier Part Number 1: NSR0340V2T1G
footprint SOD-523_STM-L
pins: 1, 2

## NX2016SA-32MHZ-EXS00A-CS06654
designator XO?, comment 32MHz
CRYSTAL 32MHZ 8PF 60R SMD; Manufacturer: NDK; Manufacturer Part Number: NX2016SA-32MHZ-EXS00A-CS06654; Supplier 1: Digi-Key; RoHS: No; Pricing 1: 1=0.58000, 10=0.48200, 50=0.43420, 100=0.38600, 500=0.36670, 1000=0.30880 (USD); Mount: Surface Mount; Case/Package: SMD/SMT; Min Operating Temperature: -40°C; Max Operating Temperature: 125°C; Packaging: Tape and Reel; Frequency: 32MHz; Load Capacitance: 8pF; ESR (Equivalent Series Resistance): 60R; Ratings: AEC-Q200; Supplier Part Number 1: 644-1373-1-ND
footprint HSE-32MHZ
pins: 1, 2, 3, 4

## RB521S30T1G
designator D?
DIODE SCHOTTKY 30V 200MA SOD523; Manufacturer: Hamamatsu; Manufacturer Part Number: S15193; ComponentLink1Description: Datasheet; ComponentLink1URL: https://www.hamamatsu.com/resources/pdf/ssd/s13773_kpin1088e.pdf; Supplier 1: Hamamatsu; Supplier 1 Part Number: S15193
footprint SOD-523_0P9X1P3_ONS-L
pins: 1, 2

## RC0402JR-071KL
designator R?  (value not drawn)
RES 1K OHM 5% 1/16W 0402; Mfr_Name: Stackpole International; Manufacturer_Part_Number: RMCF0603FT80K6; Copyright: Copyright (C) 2022 Ultra Librarian. All rights reserved.; Digi-Key_Part_Number_1: RMCF0603FT80K6CT-ND; Digi-Key_Part_Number_2: RMCF0603FT80K6DKR-ND; Digi-Key_Part_Number_3: RMCF0603FT80K6TR-ND; RefDes: RefDes; Type: DEV; Supplier 1: Avnet; Supplier Part Number 1: RC0402JR-071KL
footprint RES-STACK-POLE-0402
pins: 1, 2
text: 0402; 1K

## RC0603FR-075R1L
designator R?  (value not drawn)
RES 5.1 OHM 1% 1/10W 0603; Supplier 1: Avnet; Supplier Part Number 1: 49AK2670
footprint RES-STACK-POLE-0603
pins: 1, 2
text: 0603; 5.1 ohm

## RC0603FR-07150KL
designator R?  (value not drawn)
RES 150K OHM 1% 1/10W 0603; Supplier 1: Avnet; Supplier Part Number 1: RC0603FR-07150KL
footprint RES-STACK-POLE-0603
pins: 1, 2
text: 0603; 150K

## RC0603FR-07270KL
designator R?  (value not drawn)
RES 270K OHM 1% 1/10W 0603; Supplier 1: Avnet; Supplier Part Number 1: RC0603FR-07270KL
footprint RES-STACK-POLE-0603
pins: 1, 2
text: 0603; 270K

## RG1608P-204-B-T5
designator R?  (value not drawn)
RES SMD 200K OHM 0.1% 1/10W 0603; Supplier 1: DigiKey; Supplier Part Number 1: RG16P200KBCT-ND
footprint RES-STACK-POLE-0603
pins: 1, 2
text: 0603; 200K

## RMCF0402FT2K67
designator R?  (value not drawn)
RES 2.67K OHM 1% 1/16W 0402; Manufacturer: Stackpole Electronics; Rated Power Dissipation (P): 63mW; Rated Temperature: 70°C; Resistance: 2.67kR; Temperature Coefficient: 100ppm/°C; Working Voltage: 50V; Package Height: 0.3mm; Package Length: 1mm; Package Width: 0.5mm; Reference Standard: AEC-Q200; Supplier 1: Digikey; Manufacturer Part Number: RMCF0402FT2K67; RoHS: Yes; Category: Chip SMD Resistors; Stock 1: 61933; Pricing 1: 1=0.1, 10=0.021, 50=0.0116, 100=0.0093, 500=0.00594, 1000=0.005, 5000=0.00345 (USD); Mount: Surface Mount; Number of Pins: 2; Package Shape: Rectangular; Size Code: 0402; Terminal Finish: Nickel; Min Operating Temperature: -55°C; Max Operating Temperature: 155°C; Tolerance: 1%; JESD-609 Code: e3; Resistor Type: FIXED RESISTOR; Construction: Rectangular; Package Style: SMTMeter; Packaging: Tape and Reel; Technology: METAL GLAZE/THICK FILM; Termination: Wraparound; Reach SVHC Compliant: Yes; RoHS Compliant: Yes; ComponentLink1URL: https://datasheet.ciiva.com:443/pdfs/VipMasterIC/IC/SEIE/SEIE-S-A0009541969/SEIE-S-A0009541969-1.pdf?src-supplier=IHS+Markit; ComponentLink1Description: https://datasheet.ciiva.com:443/pdfs/VipMasterIC/IC/SEIE/SEIE-S-A0009541969/SEIE-S-A0009541969-1.pdf?src-supplier=IHS+Markit; ComponentLink2URL: https://www.seielect.com/Catalog/SEI-RMCF_RMCP.pdf?src-supplier=Digikey; ComponentLink2Description: https://www.seielect.com/Catalog/SEI-RMCF_RMCP.pdf?src-supplier=Digikey; ComponentLink3URL: https://www.seielect.com/catalog/SEI-Packaging.pdf?src-supplier=Digikey; ComponentLink3Description: https://www.seielect.com/catalog/SEI-Packaging.pdf?src-supplier=Digikey; ComponentLink4URL: https://www.seielect.com/catalog/SEI-RMCF_RMCP.pdf?src-supplier=Avnet; ComponentLink4Description: https://www.seielect.com/catalog/SEI-RMCF_RMCP.pdf?src-supplier=Avnet; Supplier Part Number 1: RMCF0402FT2K67CT-ND
footprint RES-STACK-POLE-0402
pins: 1, 2
text: 2K67

## RMCF0402FT4K70
designator R?  (value not drawn)
RES 4.7K OHM 1% 1/16W 0402; Supplier 1: Digi-Key; Supplier Part Number 1: RMCF0402FT4K70CT-ND
footprint RES-STACK-POLE-0402
pins: 1, 2
text: 0402; 4K7

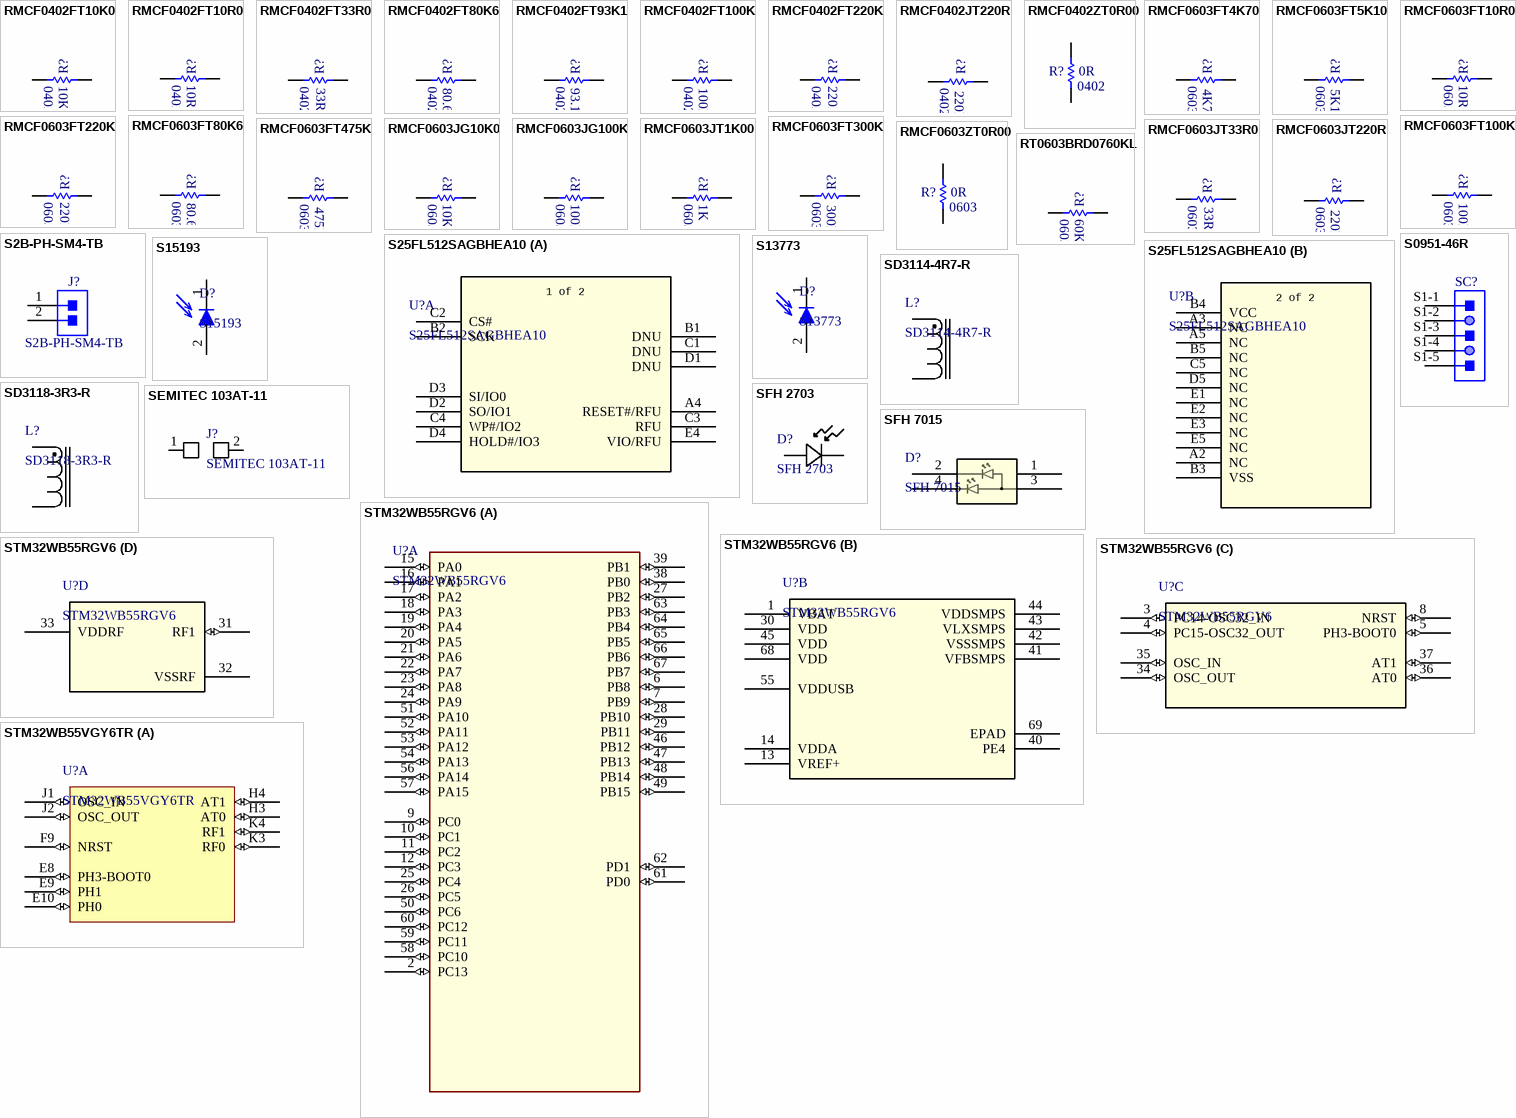
[diagram p2: symbols RMCF0402FT10K0 to STM32WB55VGY6TR]

## RMCF0402FT10K0
designator R?  (value not drawn)
RES 10K OHM 1% 1/16W 0402; Supplier 1: Digi-Key; Supplier Part Number 1: RMCF0402FT10K0CT-ND
footprint RES-STACK-POLE-0402
pins: 1, 2
text: 0402; 10K

## RMCF0402FT10R0
designator R?  (value not drawn)
RES 10 OHM 1% 1/16W 0402; Supplier 1: Digi-Key; Supplier Part Number 1: RMCF0402FT10R0CT-ND
footprint RES-STACK-POLE-0402
pins: 1, 2
text: 0402; 10R

## RMCF0402FT33R0
designator R?  (value not drawn)
RES 33 OHM 1% 1/16W 0402; Supplier 1: Digi-Key; Supplier Part Number 1: RMCF0402FT33R0CT-ND
footprint RES-STACK-POLE-0402
pins: 1, 2
text: 0402; 33R

## RMCF0402FT80K6
designator R?  (value not drawn)
RES 80.6K OHM 1% 1/16W 0402; Mfr_Name: Stackpole International; Manufacturer_Part_Number: RMCF0603FT80K6; Copyright: Copyright (C) 2022 Ultra Librarian. All rights reserved.; Digi-Key_Part_Number_1: RMCF0603FT80K6CT-ND; Digi-Key_Part_Number_2: RMCF0603FT80K6DKR-ND; Digi-Key_Part_Number_3: RMCF0603FT80K6TR-ND; RefDes: RefDes; Type: DEV; Supplier 1: Digi-Key; Supplier Part Number 1: RMCF0402FT80K6CT-ND
footprint RES-STACK-POLE-0402
pins: 1, 2
text: 0402; 80.6K

## RMCF0402FT93K1
designator R?  (value not drawn)
RES 93.1K OHM 1% 1/16W 0402; Mfr_Name: Stackpole International; Manufacturer_Part_Number: RMCF0603FT80K6; Copyright: Copyright (C) 2022 Ultra Librarian. All rights reserved.; Digi-Key_Part_Number_1: RMCF0603FT80K6CT-ND; Digi-Key_Part_Number_2: RMCF0603FT80K6DKR-ND; Digi-Key_Part_Number_3: RMCF0603FT80K6TR-ND; RefDes: RefDes; Type: DEV; Supplier 1: Digi-Key; Supplier Part Number 1: RMCF0402FT93K1CT-ND
footprint RES-STACK-POLE-0402
pins: 1, 2
text: 0402; 93.1K

## RMCF0402FT100K
designator R?  (value not drawn)
RES 100K OHM 1% 1/16W 0402; Supplier 1: Digi-Key; Supplier Part Number 1: RMCF0402FT100KCT-ND
footprint RES-STACK-POLE-0402
pins: 1, 2
text: 0402; 100K

## RMCF0402FT220K
designator R?  (value not drawn)
RES 220K OHM 1% 1/16W 0402; Supplier 1: Digi-Key; Supplier Part Number 1: RMCF0402FT220KCT-ND
footprint RES-STACK-POLE-0402
pins: 1, 2
text: 0402; 220K

## RMCF0402JT220R
designator R?  (value not drawn)
RES 220 OHM 5% 1/16W 0402; Supplier 1: Digi-Key; Supplier Part Number 1: RMCF0402JT220RCT-ND
footprint RES-STACK-POLE-0402
pins: 1, 2
text: 0402; 220R

## RMCF0402ZT0R00
designator R?  (value not drawn)
RES 0 OHM JUMPER 1/16W 0402; Supplier 1: Digi-Key; Supplier Part Number 1: RMCF0402ZT0R00CT-ND
footprint RES-STACK-POLE-0402
pins: 1, 2
text: 0R; 0402

## RMCF0603FT4K70
designator R?  (value not drawn)
RES 4.7K OHM 1% 1/10W 0603; Supplier 1: Digi-Key; Supplier Part Number 1: RMCF0603FT4K70CT-ND
footprint RES-STACK-POLE-0603
pins: 1, 2
text: 0603; 4K7

## RMCF0603FT5K10
designator R?  (value not drawn)
RES 5.1K OHM 1% 1/10W 0603; Supplier 1: DigiKey; Supplier Part Number 1: RMCF0603FT5K10CT-ND
footprint RES-STACK-POLE-0603
pins: 1, 2
text: 0603; 5K1

## RMCF0603FT10R0
designator R?  (value not drawn)
RES 10 OHM 1% 1/10W 0603; Supplier 1: Digi-Key; Supplier Part Number 1: RMCF0603FT10R0CT-ND
footprint RES-STACK-POLE-0603
pins: 1, 2
text: 0603; 10R

## RMCF0603FT80K6
designator R?  (value not drawn)
RES 80.6K OHM 1% 1/10W 0603; Mfr_Name: Stackpole International; Copyright: Copyright (C) 2022 Ultra Librarian. All rights reserved.; Manufacturer_Part_Number: RMCF0603FT80K6; Digi-Key_Part_Number_1: RMCF0603FT80K6CT-ND; Digi-Key_Part_Number_2: RMCF0603FT80K6DKR-ND; Digi-Key_Part_Number_3: RMCF0603FT80K6TR-ND; RefDes: RefDes; Type: DEV; Supplier 1: Digi-Key; Supplier Part Number 1: RMCF0603FT80K6CT-ND
footprint RES-STACK-POLE-0603
pins: 1, 2
text: 0603; 80.6K

## RMCF0603FT100K
designator R?  (value not drawn)
RES 100K OHM 1% 1/10W 0603; Supplier 1: Digi-Key; Supplier Part Number 1: RMCF0603FT100KCT-ND
footprint RES-STACK-POLE-0603
pins: 1, 2
text: 0603; 100K

## RMCF0603FT220K
designator R?  (value not drawn)
RES 220K OHM 1% 1/10W 0603; Supplier 1: Digi-Key; Supplier Part Number 1: RMCF0603FT220KCT-ND
footprint RES-STACK-POLE-0603
pins: 1, 2
text: 0603; 220K

## RMCF0603FT300K
designator R?  (value not drawn)
RES 300K OHM 1% 1/10W 0603; Supplier 1: DigiKey; Supplier Part Number 1: RMCF0603FT300KCT-ND
footprint RES-STACK-POLE-0603
pins: 1, 2
text: 0603; 300K

## RMCF0603FT475K
designator R?  (value not drawn)
RES 475K OHM 1% 1/10W 0603; Supplier 1: DigiKey; Supplier Part Number 1: RMCF0603FT475KCT-ND
footprint RES-STACK-POLE-0603
pins: 1, 2
text: 0603; 475K

## RMCF0603JG10K0
designator R?  (value not drawn)
RES 10K OHM 5% 1/10W 0603; Supplier 1: Digi-Key; Supplier Part Number 1: 738-RMCF0603JG10K0CT-ND
footprint RES-STACK-POLE-0603
pins: 1, 2
text: 0603; 10K

## RMCF0603JG100K
designator R?  (value not drawn)
RES 100K OHM 5% 1/10W 0603; Supplier 1: DigiKey; Supplier Part Number 1: RMCF0603JG100KCT-ND
footprint RES-STACK-POLE-0603
pins: 1, 2
text: 0603; 100K

## RMCF0603JT1K00
designator R?  (value not drawn)
1 kOhms ±5% 0.1W, 1/10W Chip Resistor 0603 (1608 Metric) Automotive AEC-Q200 Thick Film; Supplier 1: DigiKey; Supplier Part Number 1: RMCF0603JT1K00CT-ND
footprint RES-STACK-POLE-0603
pins: 1, 2
text: 0603; 1K

## RMCF0603JT33R0
designator R?  (value not drawn)
RES 33 OHM 5% 1/10W 0603; Supplier 1: Digi-Key; Supplier Part Number 1: RMCF0603JT33R0CT-ND
footprint RES-STACK-POLE-0603
pins: 1, 2
text: 0603; 33R

## RMCF0603JT220R
designator R?  (value not drawn)
RES 220 OHM 5% 1/10W 0603; Supplier 1: Digi-Key; Supplier Part Number 1: RMCF0603JT220RCT-ND
footprint RES-STACK-POLE-0603
pins: 1, 2
text: 0603; 220R

## RMCF0603ZT0R00
designator R?  (value not drawn)
RES 0 OHM JUMPER 1/10W 0603; Supplier 1: Digi-Key; Supplier Part Number 1: RMCF0603ZT0R00CT-ND
footprint RES-STACK-POLE-0603
pins: 1, 2
text: 0R; 0603

## RT0603BRD0760KL
designator R?  (value not drawn)
RES 60K OHM 0.1% 1/10W 0603; Supplier 1: DigiKey; Supplier Part Number 1: 13-RT0603BRD0760KLCT-ND
footprint RES-STACK-POLE-0603
pins: 1, 2
text: 0603; 60K

## S2B-PH-SM4-TB
designator J?
CONN HEADER SMD R/A 2POS 2MM; Manufacturer: JST; Supplier 1: Digikey; Manufacturer Part Number: S2B-PH-SM4-TB; RoHS: Yes; Stock 1: 232346; Pricing 1: 1=0.58, 10=0.503, 100=0.4143, 500=0.36024 (USD); Supplier Part Number 1: 455-S2B-PH-SM4-TBCT-ND
footprint 2-PIN-SMD-CONN-2-MM-PITCH
pins: 1, 2

## S25FL512SAGBHEA10
designator U?
FLASH - NOR Memory IC 512Mbit SPI - Quad I/O 133 MHz 24-BGA (6x8); Manufacturer_Name: Infineon; Type: Memory; Copyright: Copyright (C) 2025 Ultra Librarian. All rights reserved.; Manufacturer_Part_Number: S25FL512SAGBHEA10; RefDes: RefDes
footprint BGA5x5_S25FL512SAGBHEA10_INF
part A pins: A4 RESET#/RFU, B1 DNU, B2 SCK, C1 DNU, C2 CS#, C3 RFU, C4 WP#/IO2, D1 DNU, D2 SO/IO1, D3 SI/IO0, D4 HOLD#/IO3, E4 VIO/RFU
part B pins: A2 NC, A3 NC, A5 NC, B3 VSS (power), B4 VCC (power), B5 NC, C5 NC, D5 NC, E1 NC, E2 NC, E3 NC, E5 NC
part A text: 1 of 2
part B text: 2 of 2

## S0951-46R
designator SC?  (value not drawn)
RFI SHIELD CLIP MINI TIN SMD; Supplier 1: Digi-Key; Supplier Part Number 1: 952-2669-1-ND
footprint RF-SHIELD+CLIP
pins: S1-1, S1-2, S1-3, S1-4, S1-5

## S13773
designator D?
PHOTODIODE PIN 380 NM-1000 NM 20V 0.54 A/W SMD; Manufacturer: Hamamatsu; ComponentLink1Description: Datasheet; ComponentLink1URL: https://www.hamamatsu.com/resources/pdf/ssd/s13773_kpin1088e.pdf; Manufacturer Part Number: S13773; Supplier 1: Hamamatsu; Supplier 1 Part Number: S13773
footprint S13773 (SMD PIN Diode)
pins: 1, 2

## S15193
designator D?
PHOTODIODE PIN 380 NM-1000 NM 20V 0.64 A/W SMD; Manufacturer: Hamamatsu; ComponentLink1Description: Datasheet; ComponentLink1URL: https://www.hamamatsu.com/resources/pdf/ssd/s13773_kpin1088e.pdf; Manufacturer Part Number: S15193; Supplier 1: Hamamatsu; Supplier 1 Part Number: S15193
footprint S15193 (SMD PIN Diode)
pins: 1, 2

## SD3114-4R7-R
designator L?
No Description Available; Manufacturer_Name: Eaton; Copyright: Copyright (C) 2026 Ultra Librarian. All rights reserved.; Manufacturer_Part_Number: SD3114-4R7-R
footprint SD3114
pins: 1, 2

## SD3118-3R3-R
designator L?
FIXED IND 3.3UH 1.22A 113 MOHM; Manufacturer_Name: Eaton; Manufacturer_Part_Number: SD3114-4R7-R; Copyright: Copyright (C) 2026 Ultra Librarian. All rights reserved.
footprint SD3118
pins: 1, 2

## SEMITEC 103AT-11
designator J?
NTC THERMISTOR 10KOHM 1%
footprint NTC_connection
pins: 1, 2

## SFH 2703
designator D?
SENSOR PHOTODIODE 940NM 2SMD; Manufacturer_Name: ams OSRAM; Copyright: Copyright (C) 2025 Ultra Librarian. All rights reserved.; Manufacturer_Part_Number: SFH 2703; Supplier 1: Avnet; Supplier Part Number 1: Q65112A8147
footprint LED_SFH 2703_OSR
pins: 1, 2

## SFH 7015
designator D?
Multi-Color LEDs Red / IR LED 655nm / 940nm; Manufacturer_Name: ams OSRAM; Copyright: Copyright (C) 2026 Ultra Librarian. All rights reserved.; Manufacturer_Part_Number: SFH 7015; RefDes: RefDes; Type: Type; Supplier 1: Avnet; Supplier Part Number 1: Q65113A4161
footprint SFH 7015_OSR
pins: 1, 2, 3, 4

## STM32WB55RGV6
designator U?
Ultra-low-power dual core Arm Cortex-M4 MCU 64 MHz, Cortex-M0+ 32 MHz with 1 Mbyte of Flash memory, Bluetooth LE 5.4, 802.15.4, Zigbee, Thread, Matter, USB, LCD, AES-256; Manufacturer_Name: STMicroelectronics; Copyright: Copyright (C) 2025 Ultra Librarian. All rights reserved.; Manufacturer_Part_Number: STM32WB55RGV6; RefDes: RefDes; Type: Type
footprint STM32WB55RG (Ultra-low-power dual core Arm Cortex-M4 MCU 64 MHz, Cortex-M0+ 32 MHz with 1 Mbyte of Flash memory, Bluetooth LE 5.4, 802.15.4, Zigbee, Thread, Matter, USB, LCD, AES-256)
part A pins: 2 PC13 (io), 6 PB8 (io), 7 PB9 (io), 9 PC0 (io), 10 PC1 (io), 11 PC2 (io), 12 PC3 (io), 15 PA0 (io), 16 PA1 (io), 17 PA2 (io), 18 PA3 (io), 19 PA4 (io), 20 PA5 (io), 21 PA6 (io), 22 PA7 (io), 23 PA8 (io), 24 PA9 (io), 25 PC4 (io), 26 PC5 (io), 27 PB2 (io), 28 PB10 (io), 29 PB11 (io), 38 PB0 (io), 39 PB1 (io), 46 PB12 (io), 47 PB13 (io), 48 PB14 (io), 49 PB15 (io), 50 PC6 (io), 51 PA10 (io), 52 PA11 (io), 53 PA12 (io), 54 PA13 (io), 56 PA14 (io), 57 PA15 (io), 58 PC10 (io), 59 PC11 (io), 60 PC12 (io), 61 PD0 (io), 62 PD1 (io), 63 PB3 (io), 64 PB4 (io), 65 PB5 (io), 66 PB6 (io), 67 PB7 (io)
part B pins: 1 VBAT (power), 13 VREF+ (power), 14 VDDA (power), 30 VDD (power), 40 PE4 (power), 41 VFBSMPS (power), 42 VSSSMPS (power), 43 VLXSMPS (power), 44 VDDSMPS (power), 45 VDD (power), 55 VDDUSB (power), 68 VDD (power), 69 EPAD (power)
part C pins: 3 PC14-OSC32_IN (io), 4 PC15-OSC32_OUT (io), 5 PH3-BOOT0 (io), 8 NRST (io), 34 OSC_OUT (io), 35 OSC_IN (io), 36 AT0 (io), 37 AT1 (io)
part D pins: 31 RF1 (io), 32 VSSRF (power), 33 VDDRF (power)

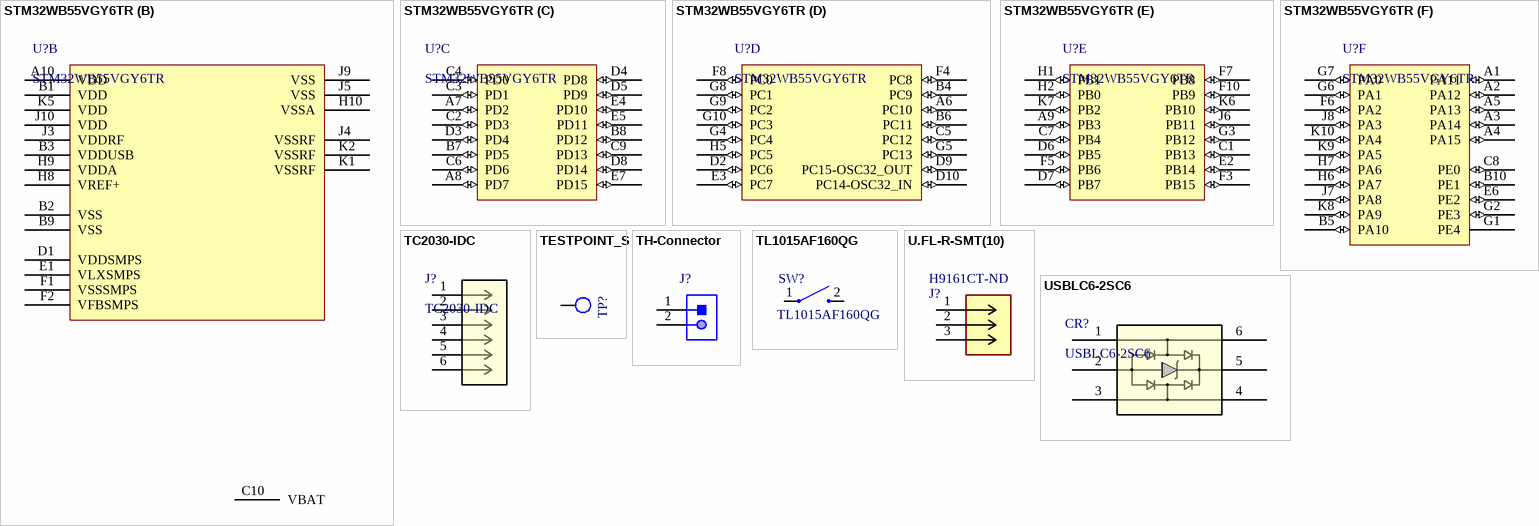
[diagram p3: symbols STM32WB55VGY6TR to USBLC6-2SC6]

## STM32WB55VGY6TR
designator U?
Ultra-low-power dual core Arm Cortex-M4 MCU 64 MHz, Cortex-M0+ 32 MHz with 1 Mbyte of Flash memory, Bluetooth LE 5.3, 802.15.4, Zigbee, Thread, Matter, USB, LCD, AES-256; Manufacturer_Name: STMicroelectronics; Copyright: Copyright (C) 2025 Ultra Librarian. All rights reserved.; Manufacturer_Part_Number: STM32WB55VGY6TR; Datasheet: https://www.st.com/resource/en/datasheet/stm32wb55cc.pdf; RefDes: RefDes; Type: Type; Supplier 1: DigiKey; Supplier Part Number 1: 497-STM32WB55VGY6CT-ND
footprint STM32WB55VGY7TR_WLCSP100
part A pins: E8 PH3-BOOT0 (io), E9 PH1 (io), E10 PH0 (io), F9 NRST (io), H3 AT0 (io), H4 AT1 (io), J1 OSC_IN (io), J2 OSC_OUT (io), K3 RF0 (io), K4 RF1 (io)
part B pins: A10 VDD (power), B1 VDD (power), B2 VSS (power), B3 VDDUSB (power), B9 VSS (power), C10 VBAT (power), D1 VDDSMPS (power), E1 VLXSMPS (power), F1 VSSSMPS (power), F2 VFBSMPS (power), H8 VREF+ (power), H9 VDDA (power), H10 VSSA (power), J3 VDDRF (power), J4 VSSRF (power), J5 VSS (power), J9 VSS (power), J10 VDD (power), K1 VSSRF (power), K2 VSSRF (power), K5 VDD (power)
part C pins: A7 PD2 (io), A8 PD7 (io), B7 PD5 (io), B8 PD12 (io), C2 PD3 (io), C3 PD1 (io), C4 PD0 (io), C6 PD6 (io), C9 PD13 (io), D3 PD4 (io), D4 PD8 (io), D5 PD9 (io), D8 PD14 (io), E4 PD10 (io), E5 PD11 (io), E7 PD15 (io)
part D pins: A6 PC10 (io), B4 PC9 (io), B6 PC11 (io), C5 PC12 (io), D2 PC6 (io), D9 PC15-OSC32_OUT (io), D10 PC14-OSC32_IN (io), E3 PC7 (io), F4 PC8 (io), F8 PC0 (io), G4 PC4 (io), G5 PC13 (io), G8 PC1 (io), G9 PC2 (io), G10 PC3 (io), H5 PC5 (io)
part E pins: A9 PB3 (io), C1 PB13 (io), C7 PB4 (io), D6 PB5 (io), D7 PB7 (io), E2 PB14 (io), F3 PB15 (io), F5 PB6 (io), F7 PB8 (io), F10 PB9 (io), G3 PB12 (io), H1 PB1 (io), H2 PB0 (io), J6 PB11 (io), K6 PB10 (io), K7 PB2 (io)
part F pins: A1 PA11 (io), A2 PA12 (io), A3 PA14 (io), A4 PA15 (io), A5 PA13 (io), B5 PA10 (io), B10 PE1 (io), C8 PE0 (io), E6 PE2 (io), F6 PA2 (io), G1 PE4 (power), G2 PE3 (io), G6 PA1 (io), G7 PA0 (io), H6 PA7 (io), H7 PA6 (io), J7 PA8 (io), J8 PA3 (io), K8 PA9 (io), K9 PA5 (io), K10 PA4 (io)

## TC2030-IDC
designator J?
Description; Manufacturer_Name: Tag-Connect; Copyright: Copyright (C) 2025 Ultra Librarian. All rights reserved.; Manufacturer_Part_Number: TC2030-IDC; RefDes: RefDes; Type: Type
footprint CONN_TC2030-IDC_TGC
pins: 1, 2, 3, 4, 5, 6

## TESTPOINT_S
designator TP?  (value not drawn)  (no BOM)
Testpoint Surface Pad
footprint TESTPOINT_S
pins: 1

## TH-Connector
designator J?  (value not drawn)
Power Connector
footprint 2-PIN-TH-CONN
pins: 1, 2

## TL1015AF160QG
designator SW?
SWITCH TACTILE SPST-NO 0.05A 12V; Supplier 1: Digi-Key; Supplier Part Number 1: EG4344CT-ND
footprint TACTILE-SWITCH
pins: 1, 2

## U.FL-R-SMT(10)
designator J?  Supplier Part Number 1: H9161CT-ND  (hidden comment: U.FL-R-SMT(10))
CONN U.FL RCPT STR 50 OHM SMD; Manufacturer: Hirose; Copyright: Copyright (C) 2021 Ultra Librarian. All rights reserved.; Manufacturer Part Number: U.FL-R-SMT(10); Digi-Key_Part_Number_1: H9161TR-ND; Digi-Key_Part_Number_2: H9161CT-ND; Digi-Key_Part_Number_3: H9161DKR-ND; Digi-Key_Part_Number_4: H9161TR-NDL; RefDes: RefDes; Type: DEV; Supplier 1: Digi-Key
footprint RF-CONNECTOR
pins: 1, 2, 3

## USBLC6-2SC6
designator CR?
ESD Protection for USB 2.0 High Speed; Manufacturer_Name: STMicroelectronics; Copyright: Copyright (C) 2025 Ultra Librarian. All rights reserved.; Manufacturer_Part_Number: USBLC6-2SC6; RefDes: RefDes; Type: Type; Supplier 1: Avnet; Supplier Part Number 1: USBLC6-2SC6
footprint SOT-23
pins: 1, 2, 3, 4, 5, 6